# Altium schematic symbol library OLED_PCB_Project.SCHLIB: 11 symbols
Pins are listed as number, name and electrical type; pins without a type are passive.

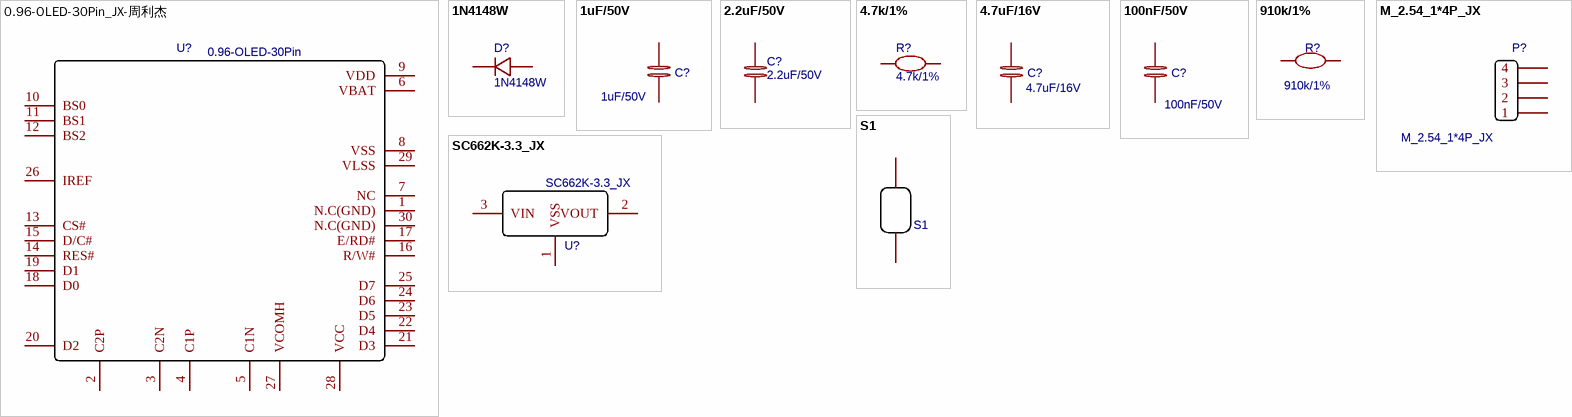
[diagram p0: symbols 0.96-OLED-30Pin_JX-周利杰 to SC662K-3.3_JX]

## 0.96-OLED-30Pin_JX-周利杰
designator U?, comment 0.96-OLED-30Pin
Contributor: 2019电子技术新讲座; spicePre: U
footprint 0.96-OLED-30PIN_JX
pins: 1 N.C(GND), 2 C2P, 3 C2N, 4 C1P, 5 C1N, 6 VBAT, 7 NC, 8 VSS, 9 VDD, 10 BS0, 11 BS1, 12 BS2, 13 CS#, 14 RES#, 15 D/C#, 16 R/W#, 17 E/RD#, 18 D0, 19 D1, 20 D2, 21 D3, 22 D4, 23 D5, 24 D6, 25 D7, 26 IREF, 27 VCOMH, 28 VCC, 29 VLSS, 30 N.C(GND)

## 1N4148W
designator D?
BOM_Manufacturer: SEMTECH; SMT Type: Basic; BOM_Supplier: LCSC; BOM_Manufacturer Part: 1N4148W; image: //image.lceda.cn/szlcsc/C81598.jpg; BOM_Supplier Part: C81598; BOM_LCSC Assembly: Yes; spicePre: D
footprint SOD-523_JX
pins: 1 K, 2 A

## 1uF/50V
designator C?
nameAlias: Value(F); spicePre: C; spiceSymbolName: Cap_RAD-0.1_EU
footprint 0603_C_JX
pins: 1, 2

## 2.2uF/50V
designator C?
nameAlias: Value(F); spicePre: C; spiceSymbolName: Cap_RAD-0.1_EU
footprint 0603_C_JX
pins: 1, 2

## 4.7k/1%
designator R?
nameAlias: Value(Ω); spicePre: R; spiceSymbolName: Res_AXIAL-0.3(1/8W)_EU
footprint 0603_R_JX
pins: 1, 2

## 4.7uF/16V
designator C?
nameAlias: Value(F); spicePre: C; spiceSymbolName: Cap_RAD-0.1_EU
footprint 0603_C_JX
pins: 1, 2

## 100nF/50V
designator C?
nameAlias: Value(F); spicePre: C; spiceSymbolName: Cap_RAD-0.1_EU
footprint 0603_C_JX
pins: 1, 2

## 910k/1%
designator R?
nameAlias: Value(Ω); spicePre: R; spiceSymbolName: Res_AXIAL-0.3(1/8W)_EU
footprint 0603_R_JX
pins: 1, 2

## M_2.54_1*4P_JX
designator P?
Contributor: jixin-team; BOM_Supplier Part: C115245; BOM_Supplier: LCSC; spicePre: P
footprint M_2.54_1*4P_JX
pins: 1, 2, 3, 4

## S1
designator U?
Contributor: ywl21; spicePre: U
footprint S1
pins: 1, 2

## SC662K-3.3_JX
designator U?
Contributor: jixin002; BOM_Manufacturer Part: SC662K-3.3; spicePre: U
footprint SOT23_JX
pins: 1 VSS, 2 VOUT, 3 VIN